# Altium footprint library COMM_SCHPCB.PcbLib: 136 footprints (part 8 of 9)
Each footprint in its own frame and in the unit in brackets; x right, y up, seen from the top. Pads: shape width x height; smd on the part's side, far side on the other; paste and mask are expansions set on the pad; w line width, h text height; cw(c..) or ccw(c..) is an arc to the next point about the centre after c.
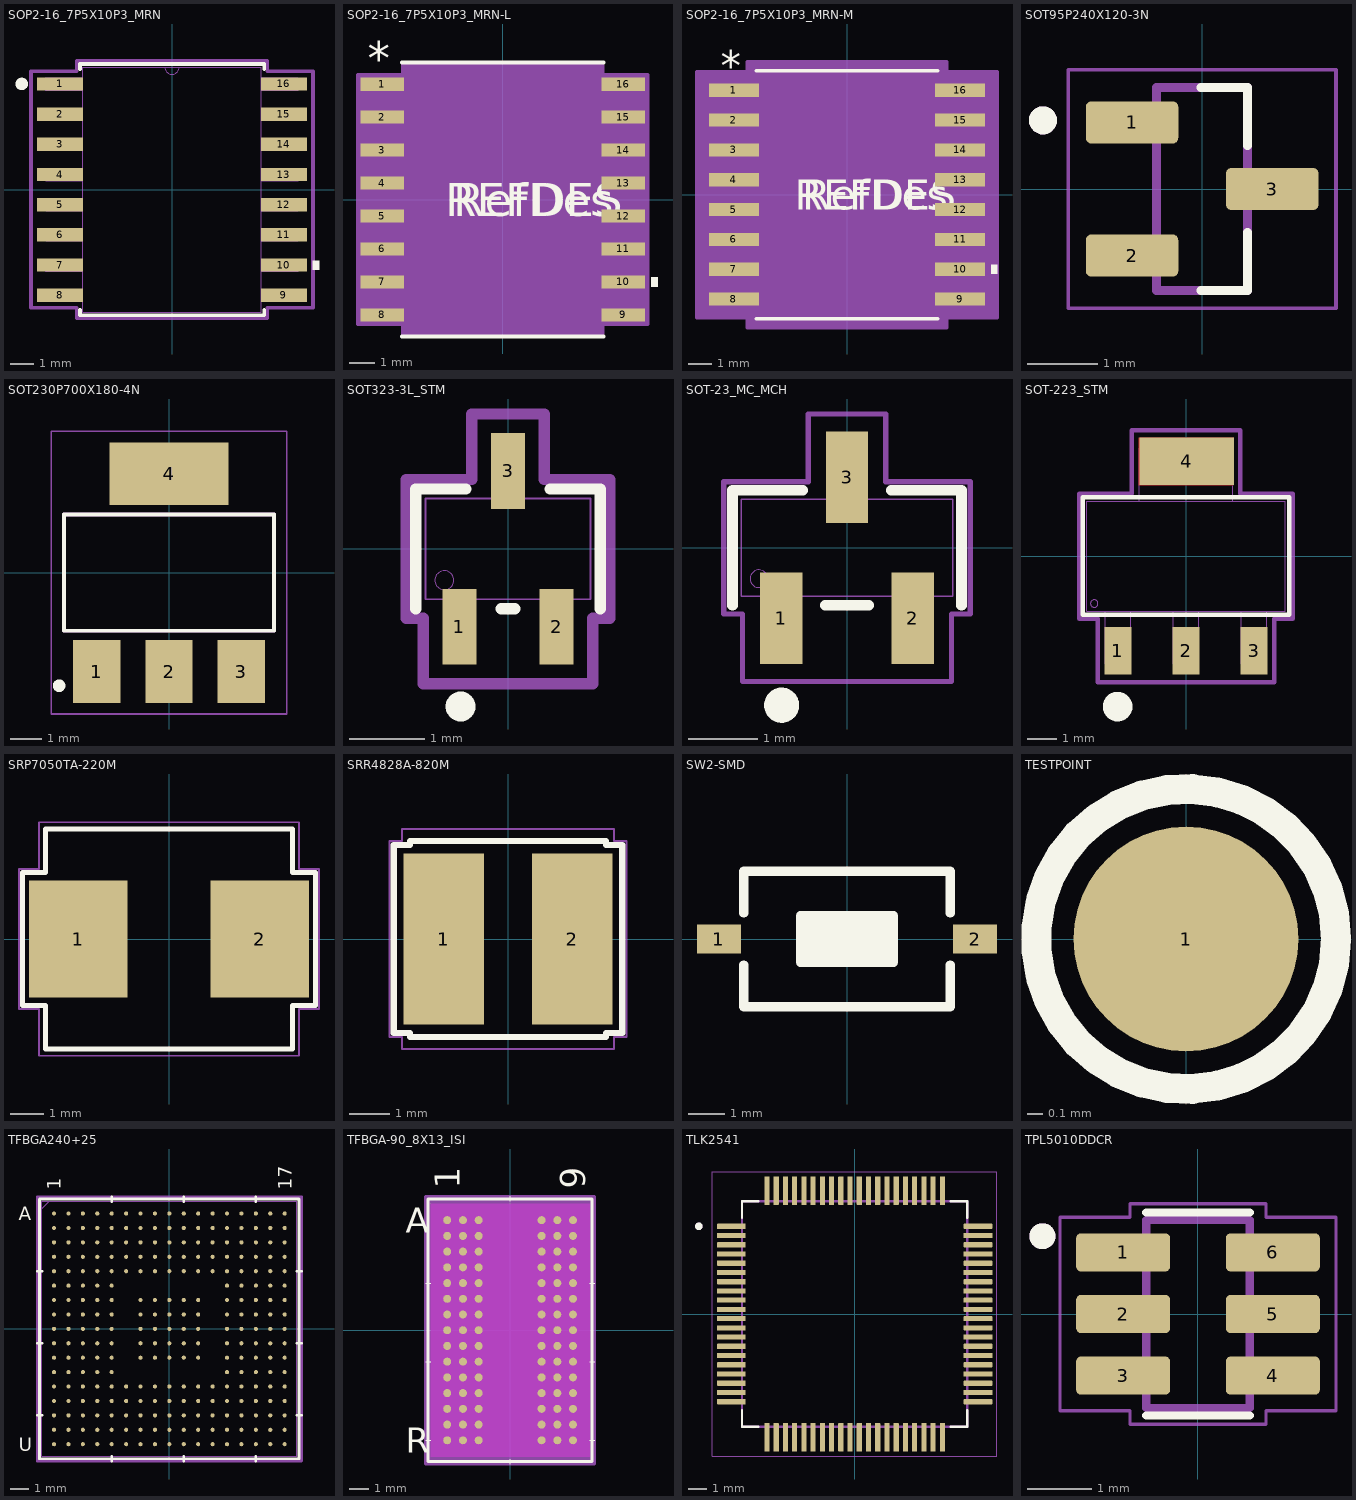
[diagram p7: the footprints below, top view; thin cyan lines are the x and y axes]

## SOP2-16_7P5X10P3_MRN [mil]
pads (16):
  rect 76x22 smd paste+0 mask+0: 1(-185.5,175) 2(-185.5,125) 3(-185.5,75) 4(-185.5,25) 5(-185.5,-25) 6(-185.5,-75) 7(-185.5,-125) 8(-185.5,-175) 9(185.5,-175) 10(185.5,-125) 11(185.5,-75) 12(185.5,-25) 13(185.5,25) 14(185.5,75) 15(185.5,125) 16(185.5,175)
Top Overlay:
  circle w11.81: c-249,175 r4.47
  region: 233.5,-117.5 243.5,-117.5 243.5,-132.5 233.5,-132.5
  lines w6: -152.5,-199.1 -152.5,-208 152.5,-208 152.5,-199.1 ; -152.5,199.1 -152.5,208 152.5,208 152.5,199.1
Mechanical 13:
  lines w0: -12,203 ccw(c0,203) 12,203
  lines w1: -209.5,-185 -147.5,-185 -147.5,-165 -209.5,-165 -209.5,-185 ; -209.5,-135 -147.5,-135 -147.5,-115 -209.5,-115 -209.5,-135 ; -209.5,-85 -147.5,-85 -147.5,-65 -209.5,-65 -209.5,-85 ; -209.5,-35 -147.5,-35 -147.5,-15 -209.5,-15 -209.5,-35 ; -209.5,15 -147.5,15 -147.5,35 -209.5,35 -209.5,15 ; -209.5,65 -147.5,65 -147.5,85 -209.5,85 -209.5,65 ; -209.5,115 -147.5,115 -147.5,135 -209.5,135 -209.5,115 ; -209.5,165 -147.5,165 -147.5,185 -209.5,185 -209.5,165 ; -147.5,-203 -147.5,203 147.5,203 147.5,-203 -147.5,-203 ; 147.5,-185 209.5,-185 209.5,-165 147.5,-165 147.5,-185 ; 147.5,-135 209.5,-135 209.5,-115 147.5,-115 147.5,-135 ; 147.5,-85 209.5,-85 209.5,-65 147.5,-65 147.5,-85 ; 147.5,-35 209.5,-35 209.5,-15 147.5,-15 147.5,-35 ; 147.5,15 209.5,15 209.5,35 147.5,35 147.5,15 ; 147.5,65 209.5,65 209.5,85 147.5,85 147.5,65 ; 147.5,115 209.5,115 209.5,135 147.5,135 147.5,115 ; 147.5,165 209.5,165 209.5,185 147.5,185 147.5,165
Mechanical 15:
  lines w6: -233.5,-196 -157.5,-196 -157.5,-213 157.5,-213 157.5,-196 233.5,-196 233.5,196 157.5,196 157.5,213 -157.5,213 -157.5,196 -233.5,196 -233.5,-196
3D body "SOP2-16_7P5X10P3_MRN.step": height 108.11, standoff 0, extent -209.49,-202.99 209.49,202.99

## SOP2-16_7P5X10P3_MRN-L [mil]
pads (16):
  rect 66x20 smd paste+0 mask+0: 1(-182.5,175) 2(-182.5,125) 3(-182.5,75) 4(-182.5,25) 5(-182.5,-25) 6(-182.5,-75) 7(-182.5,-125) 8(-182.5,-175) 9(182.5,-175) 10(182.5,-125) 11(182.5,-75) 12(182.5,-25) 13(182.5,25) 14(182.5,75) 15(182.5,125) 16(182.5,175)
Top Overlay:
  region: 225.5,-117.5 235.5,-117.5 235.5,-132.5 225.5,-132.5
  lines w6: -152.5,-208 152.5,-208 ; -152.5,208 152.5,208
  text "RefDes" at -75,-25 h50
  text "*" at -205,190 h50
  text "REFDES" at -87.5,-25 h50
Mechanical 13:
  lines w0: -12,203 ccw(c0,203) 12,203
  lines w1: -209.5,-185 -147.5,-185 -147.5,-165 -209.5,-165 -209.5,-185 ; -209.5,-135 -147.5,-135 -147.5,-115 -209.5,-115 -209.5,-135 ; -209.5,-85 -147.5,-85 -147.5,-65 -209.5,-65 -209.5,-85 ; -209.5,-35 -147.5,-35 -147.5,-15 -209.5,-15 -209.5,-35 ; -209.5,15 -147.5,15 -147.5,35 -209.5,35 -209.5,15 ; -209.5,65 -147.5,65 -147.5,85 -209.5,85 -209.5,65 ; -209.5,115 -147.5,115 -147.5,135 -209.5,135 -209.5,115 ; -209.5,165 -147.5,165 -147.5,185 -209.5,185 -209.5,165 ; -147.5,-203 -147.5,203 147.5,203 147.5,-203 -147.5,-203 ; 147.5,-185 209.5,-185 209.5,-165 147.5,-165 147.5,-185 ; 147.5,-135 209.5,-135 209.5,-115 147.5,-115 147.5,-135 ; 147.5,-85 209.5,-85 209.5,-65 147.5,-65 147.5,-85 ; 147.5,-35 209.5,-35 209.5,-15 147.5,-15 147.5,-35 ; 147.5,15 209.5,15 209.5,35 147.5,35 147.5,15 ; 147.5,65 209.5,65 209.5,85 147.5,85 147.5,65 ; 147.5,115 209.5,115 209.5,135 147.5,135 147.5,115 ; 147.5,165 209.5,165 209.5,185 147.5,185 147.5,165
  text "RefDes2" at -87.5,-25 h50
  text "*" at -145,150 h50
Mechanical 15:
  region: -151.5,-189 -219.5,-189 -219.5,189 -151.5,189 -151.5,207 151.5,207 151.5,189 219.5,189 219.5,-189 151.5,-189 151.5,-207 -151.5,-207
  lines w6: -219.5,-189 -151.5,-189 -151.5,-207 151.5,-207 151.5,-189 219.5,-189 219.5,189 151.5,189 151.5,207 -151.5,207 -151.5,189 -219.5,189 -219.5,-189
3D body "SOP2-16_7P5X10P3_MRN.step": height 108.11, standoff 0, extent -209.49,-202.99 209.49,202.99

## SOP2-16_7P5X10P3_MRN-M [mil]
pads (16):
  rect 84x22 smd paste+0 mask+0: 1(-189.5,175) 2(-189.5,125) 3(-189.5,75) 4(-189.5,25) 5(-189.5,-25) 6(-189.5,-75) 7(-189.5,-125) 8(-189.5,-175) 9(189.5,-175) 10(189.5,-125) 11(189.5,-75) 12(189.5,-25) 13(189.5,25) 14(189.5,75) 15(189.5,125) 16(189.5,175)
Top Overlay:
  region: 241.5,-117.5 251.5,-117.5 251.5,-132.5 241.5,-132.5
  lines w6: -152.5,-208 152.5,-208 ; -152.5,208 152.5,208
  text "REFDES" at -87.5,-25 h50
  text "*" at -212,192 h50
  text "RefDes" at -75,-25 h50
Mechanical 13:
  lines w0: -12,203 ccw(c0,203) 12,203
  lines w1: -209.5,-185 -209.5,-165 -147.5,-165 -147.5,-185 -209.5,-185 ; -209.5,-135 -209.5,-115 -147.5,-115 -147.5,-135 -209.5,-135 ; -209.5,-85 -209.5,-65 -147.5,-65 -147.5,-85 -209.5,-85 ; -209.5,-35 -209.5,-15 -147.5,-15 -147.5,-35 -209.5,-35 ; -209.5,15 -209.5,35 -147.5,35 -147.5,15 -209.5,15 ; -209.5,65 -209.5,85 -147.5,85 -147.5,65 -209.5,65 ; -209.5,115 -209.5,135 -147.5,135 -147.5,115 -209.5,115 ; -209.5,165 -209.5,185 -147.5,185 -147.5,165 -209.5,165 ; -147.5,-203 147.5,-203 147.5,203 -147.5,203 -147.5,-203 ; 147.5,-185 147.5,-165 209.5,-165 209.5,-185 147.5,-185 ; 147.5,-135 147.5,-115 209.5,-115 209.5,-135 147.5,-135 ; 147.5,-85 147.5,-65 209.5,-65 209.5,-85 147.5,-85 ; 147.5,-35 147.5,-15 209.5,-15 209.5,-35 147.5,-35 ; 147.5,15 147.5,35 209.5,35 209.5,15 147.5,15 ; 147.5,65 147.5,85 209.5,85 209.5,65 147.5,65 ; 147.5,115 147.5,135 209.5,135 209.5,115 147.5,115 ; 147.5,165 147.5,185 209.5,185 209.5,165 147.5,165
  text "*" at -145,150 h50
  text "RefDes2" at -87.5,-25 h50
Mechanical 15:
  region: -167.5,-206 -251.5,-206 -251.5,206 -167.5,206 -167.5,223 167.5,223 167.5,206 251.5,206 251.5,-206 167.5,-206 167.5,-223 -167.5,-223
  lines w6: -251.5,-206 -251.5,206 -167.5,206 -167.5,223 167.5,223 167.5,206 251.5,206 251.5,-206 167.5,-206 167.5,-223 -167.5,-223 -167.5,-206 -251.5,-206
3D body "SOP2-16_7P5X10P3_MRN.step": height 108.11, standoff 0, extent -209.49,-202.99 209.49,202.99

## SOT95P240X120-3N [mm]
height 1.2
pads (3):
  rrect25% 1.32x0.6 smd: 1(-1,0.95) 2(-1,-0.95) 3(1,0)
Top Overlay:
  circle w0.2: c-2.27,0.98 r0.1
  lines w0.127: -0.02,-1.45 0.65,-1.45 0.65,-0.62 ; -0.02,1.45 0.65,1.45 0.65,0.62
Mechanical 13:
  circle w0.2: c-2.27,0.98 r0.1
  lines w0.127: -0.65,-1.45 -0.65,1.45 0.65,1.45 0.65,-1.45 -0.65,-1.45
Mechanical 15:
  lines w0.05: -1.91,-1.7 1.91,-1.7 1.91,1.7 -1.91,1.7 -1.91,-1.7
3D body "step_temp.STEP": height 1.2, standoff 0, extent -1.2,-1.45 1.2,1.45

## SOT230P700X180-4N [mm]
pads (4):
  rect 1.5x2 smd: 1(-2.3,-3.15) 2(0,-3.15) 3(2.3,-3.15)
  rect 3.8x2 smd: 4(0,3.15)
Top Overlay:
  circle w0.2: c-3.5,-3.6 r0.1
  lines w0.127: -3.35,-1.85 3.35,-1.85 3.35,1.85 -3.35,1.85 -3.35,-1.85
Mechanical 13:
  lines w0.127: -3.35,-1.85 3.35,-1.85 3.35,1.85 -3.35,1.85 -3.35,-1.85
Mechanical 15:
  lines w0.05: -3.75,-4.5 -3.75,4.5 3.75,4.5 3.75,-4.5 -3.75,-4.5
3D body "step_temp.STEP": height 1.8, standoff 0, extent -3.25,-3.499 3.25,3.499

## SOT323-3L_STM [mil]
pads (3):
  rect 18x40 smd paste+0 mask+0: 1(-25.59,-41) 2(25.59,-41) 3(0,41)
Top Overlay:
  circle w7.87: c-25,-83 r3.94
  lines w6: -48.5,-31.5 -48.5,31.5 -22.1,31.5 ; -3.49,-31.5 3.49,-31.5 ; 22.1,31.5 48.5,31.5 48.5,-31.5
Mechanical 13:
  circle w0: c-33.5,-16.5 r5
  lines w1: -43.5,-26.5 43.5,-26.5 43.5,26.5 -43.5,26.5 -43.5,-26.5 ; -33.59,-47 -33.59,-26.5 -17.59,-26.5 -17.59,-47 -33.59,-47 ; -8,26.5 8,26.5 8,47 -8,47 -8,26.5 ; 17.59,-47 17.59,-26.5 33.59,-26.5 33.59,-47 17.59,-47
Mechanical 15:
  lines w6: -53.5,-36.5 -53.5,36.5 -19,36.5 -19,71 19,71 19,36.5 53.5,36.5 53.5,-36.5 44.59,-36.5 44.59,-71 -44.59,-71 -44.59,-36.5 -53.5,-36.5
3D body "SOT323-3L_STM.step": height 43.11, standoff 0, extent -43.5,-47.01 43.5,47.01

## SOT-23_MC_MCH [mil]
pads (3):
  rect 24x52 smd paste+0 mask+0: 1(-37.4,-39.97) 2(37.4,-39.97) 3(0,39.97)
Top Overlay:
  circle w10: c-37.13,-89.41 r5
  lines w6: -65.04,-32.56 -65.04,32.56 -25.1,32.56 ; -12.3,-32.56 12.3,-32.56 ; 25.1,32.56 65.04,32.56 65.04,-32.56
Mechanical 13:
  circle w0: c-50.04,-17.56 r5
  lines w1: -60.04,-27.56 60.04,-27.56 60.04,27.56 -60.04,27.56 -60.04,-27.56 ; -48.4,-51.97 -48.4,-27.56 -26.4,-27.56 -26.4,-51.97 -48.4,-51.97 ; -11,27.56 11,27.56 11,51.97 -11,51.97 -11,27.56 ; 26.4,-51.97 26.4,-27.56 48.4,-27.56 48.4,-51.97 26.4,-51.97
Mechanical 15:
  lines w3: -70.04,-37.56 -70.04,37.56 -22,37.56 -22,75.97 22,75.97 22,37.56 70.04,37.56 70.04,-37.56 59.4,-37.56 59.4,-75.97 -59.4,-75.97 -59.4,-37.56 -70.04,-37.56
3D body "SOT-23_MC_MCH.step": height 44.17, standoff 0, extent -60.04,-51.97 60.04,51.97

## SOT-223_STM [mil]
pads (4):
  rect 36x63 smd paste+0: 1(-90.55,-126) 2(0,-126) 3(90.55,-126)
  rect 125.98x62.99 smd paste+0: 4(1,126)
Top Layer:
  region: 63,94.5 63,157.5 -63,157.5 -63,94.5
Top Overlay:
  circle w19.68: c-91,-200 r9.84
  lines w6: -137,-78 137,-78 137,78 -137,78 -137,-78
Mechanical 13:
  circle w0: c-122,-63 r5
  lines w1: -132,-73 132,-73 132,73 -132,73 -132,-73 ; -107.55,-143.5 -107.55,-73 -73.55,-73 -73.55,-143.5 -107.55,-143.5 ; -62,73 62,73 62,143.5 -62,143.5 -62,73 ; -17,-143.5 -17,-73 17,-73 17,-143.5 -17,-143.5 ; 73.55,-143.5 73.55,-73 107.55,-73 107.55,-143.5 73.55,-143.5
Mechanical 15:
  lines w6: -142,-83 -142,83 -72,83 -72,167.5 72,167.5 72,83 142,83 142,-83 117.55,-83 117.55,-167.5 -117.55,-167.5 -117.55,-83 -142,-83
3D body "SOT-223_STM.step": height 71.1, standoff 0, extent -132.01,-143.5 132.01,143.5

## SRP7050TA-220M [mm]
pads (2):
  rect 2.95x3.5 smd: 1(-2.725,0) 2(2.725,0)
Top Overlay:
  lines w0.15: -4.4,-2 -4.4,2 -3.7,2 -3.7,3.3 3.7,3.3 3.7,2 4.4,2 4.4,-2 3.7,-2 3.7,-3.3 -3.7,-3.3 -3.7,-2 -4.4,-2
Top Courtyard:
  lines w0.05: -4.5,-2.1 -3.9,-2.1 -3.9,-3.5 3.9,-3.5 3.9,-2.1 4.5,-2.1 4.5,2.1 3.9,2.1 3.9,3.5 -3.9,3.5 -3.9,2.1 -4.5,2.1 -4.5,1.8 -4.5,-2.1
3D body "SRP7050TA.stp": height 4.6, standoff -0.35, extent -3.65,-3.3 3.65,3.3

## SRR4828A-820M [mm] "L-SMD-M-4.8x4.8x2.8mm"
pads (2):
  rect 1.98x4.2 smd: 1(-1.575,0) 2(1.575,0)
Top Overlay:
  lines w0.15: -2.8,-2.3 -2.8,2.3 -2.4,2.3 -2.4,2.4 -2.3,2.4 2.4,2.4 2.4,2.3 2.6,2.3 2.7,2.3 2.8,2.3 2.8,-2.3 2.5,-2.3 2.4,-2.3 2.4,-2.4 -2.4,-2.4 -2.4,-2.3 -2.8,-2.3
Top Courtyard:
  lines w0.05: -2.9,2.1 -2.9,2.4 -2.6,2.4 -2.6,2.7 2.6,2.7 2.6,2.4 2.9,2.4 2.9,-2.4 2.6,-2.4 2.6,-2.7 -2.6,-2.7 -2.6,-2.6 -2.6,-2.4 -2.9,-2.4 -2.9,2.2
3D body "SRR4828A (1).stp": height 2.8, standoff 0.04, extent -2.4,-2.41 2.4,2.41

## SW2-SMD [mm]
pads (2):
  rect 1.2x0.8 smd: 1(-3.5,0) 2(3.5,0)
Top Overlay:
  rectangle: -1.27,-0.635 1.27,0.635
  lines w0.254: -2.819,-0.711 -2.819,-1.854 2.819,-1.854 2.819,-0.711 ; -2.819,0.711 -2.819,1.854 2.819,1.854 2.819,0.711 ; -1.27,-0.635 1.27,-0.635 1.27,0.635 -1.27,0.635 -1.27,-0.635
3D body "User Library-Button-SMD.step": height 2.5, standoff 0, extent -3.05,-1.85 3.05,1.85

## TESTPOINT [mm]
pads (1):
  round 1.5 smd: 1(0,0)
Top Overlay:
  circle w0.2: c0,0 r1

## TFBGA240+25 [mil]
pads (265):
  round 9 smd paste+0 mask+3: A1(-251.97,251.97) A2(-220.47,251.97) A3(-188.98,251.97) A4(-157.48,251.97) A5(-125.98,251.97) A6(-94.49,251.97) A7(-62.99,251.97) A8(-31.5,251.97) A9(0,251.97) A10(31.5,251.97) A11(62.99,251.97) A12(94.49,251.97) A13(125.98,251.97) A14(157.48,251.97) A15(188.98,251.97) A16(220.47,251.97) A17(251.97,251.97) B1(-251.97,220.47) B2(-220.47,220.47) B3(-188.98,220.47) B4(-157.48,220.47) B5(-125.98,220.47) B6(-94.49,220.47) B7(-62.99,220.47) B8(-31.5,220.47) B9(0,220.47) B10(31.5,220.47) B11(62.99,220.47) B12(94.49,220.47) B13(125.98,220.47) B14(157.48,220.47) B15(188.98,220.47) B16(220.47,220.47) B17(251.97,220.47) C1(-251.97,188.98) C2(-220.47,188.98) C3(-188.98,188.98) C4(-157.48,188.98) C5(-125.98,188.98) C6(-94.49,188.98) C7(-62.99,188.98) C8(-31.5,188.98) C9(0,188.98) C10(31.5,188.98) C11(62.99,188.98) C12(94.49,188.98) C13(125.98,188.98) C14(157.48,188.98) C15(188.98,188.98) C16(220.47,188.98) C17(251.97,188.98) D1(-251.97,157.48) D2(-220.47,157.48) D3(-188.98,157.48) D4(-157.48,157.48) D5(-125.98,157.48) D6(-94.49,157.48) D7(-62.99,157.48) D8(-31.5,157.48) D9(0,157.48) D10(31.5,157.48) D11(62.99,157.48) D12(94.49,157.48) D13(125.98,157.48) D14(157.48,157.48) D15(188.98,157.48) D16(220.47,157.48) D17(251.97,157.48) E1(-251.97,125.98) E2(-220.47,125.98) E3(-188.98,125.98) E4(-157.48,125.98) E5(-125.98,125.98) E6(-94.49,125.98) E7(-62.99,125.98) E8(-31.5,125.98) E9(0,125.98) E10(31.5,125.98) E11(62.99,125.98) E12(94.49,125.98) E13(125.98,125.98) E14(157.48,125.98) E15(188.98,125.98) E16(220.47,125.98) E17(251.97,125.98) F1(-251.97,94.49) F2(-220.47,94.49) F3(-188.98,94.49) F4(-157.48,94.49) F5(-125.98,94.49) F13(125.98,94.49) F14(157.48,94.49) F15(188.98,94.49) F16(220.47,94.49) F17(251.97,94.49) G1(-251.97,62.99) G2(-220.47,62.99) G3(-188.98,62.99) G4(-157.48,62.99) G5(-125.98,62.99) G7(-62.99,62.99) G8(-31.5,62.99) G9(0,62.99) G10(31.5,62.99) G11(62.99,62.99) G13(125.98,62.99) G14(157.48,62.99) G15(188.98,62.99) G16(220.47,62.99) G17(251.97,62.99) H1(-251.97,31.5) H2(-220.47,31.5) H3(-188.98,31.5) H4(-157.48,31.5) H5(-125.98,31.5) H7(-62.99,31.5) H8(-31.5,31.5) H9(0,31.5) H10(31.5,31.5) H11(62.99,31.5) H13(125.98,31.5) H14(157.48,31.5) H15(188.98,31.5) H16(220.47,31.5) H17(251.97,31.5) J1(-251.97,0) J2(-220.47,0) J3(-188.98,0) J4(-157.48,0) J5(-125.98,0) J7(-62.99,0) J8(-31.5,0) J9(0,0) J10(31.5,0) J11(62.99,0) J13(125.98,0) J14(157.48,0) J15(188.98,0) J16(220.47,0) J17(251.97,0) K1(-251.97,-31.5) K2(-220.47,-31.5) K3(-188.98,-31.5) K4(-157.48,-31.5) K5(-125.98,-31.5) K7(-62.99,-31.5) K8(-31.5,-31.5) K9(0,-31.5) K10(31.5,-31.5) K11(62.99,-31.5) K13(125.98,-31.5) K14(157.48,-31.5) K15(188.98,-31.5) K16(220.47,-31.5) K17(251.97,-31.5) L1(-251.97,-62.99) L2(-220.47,-62.99) L3(-188.98,-62.99) L4(-157.48,-62.99) L5(-125.98,-62.99) L7(-62.99,-62.99) L8(-31.5,-62.99) L9(0,-62.99) L10(31.5,-62.99) L11(62.99,-62.99) L13(125.98,-62.99) L14(157.48,-62.99) L15(188.98,-62.99) L16(220.47,-62.99) L17(251.97,-62.99) M1(-251.97,-94.49) M2(-220.47,-94.49) M3(-188.98,-94.49) M4(-157.48,-94.49) M5(-125.98,-94.49) M13(125.98,-94.49) M14(157.48,-94.49) M15(188.98,-94.49) M16(220.47,-94.49) M17(251.97,-94.49) N1(-251.97,-125.98) N2(-220.47,-125.98) N3(-188.98,-125.98) N4(-157.48,-125.98) N5(-125.98,-125.98) N6(-94.49,-125.98) N7(-62.99,-125.98) N8(-31.5,-125.98) N9(0,-125.98) N10(31.5,-125.98) N11(62.99,-125.98) N12(94.49,-125.98) N13(125.98,-125.98) N14(157.48,-125.98) N15(188.98,-125.98) N16(220.47,-125.98) N17(251.97,-125.98) P1(-251.97,-157.48) P2(-220.47,-157.48) P3(-188.98,-157.48) P4(-157.48,-157.48) P5(-125.98,-157.48) P6(-94.49,-157.48) P7(-62.99,-157.48) P8(-31.5,-157.48) P9(0,-157.48) P10(31.5,-157.48) P11(62.99,-157.48) P12(94.49,-157.48) P13(125.98,-157.48) P14(157.48,-157.48) P15(188.98,-157.48) P16(220.47,-157.48) P17(251.97,-157.48) R1(-251.97,-188.98) R2(-220.47,-188.98) R3(-188.98,-188.98) R4(-157.48,-188.98) R5(-125.98,-188.98) R6(-94.49,-188.98) R7(-62.99,-188.98) R8(-31.5,-188.98) R9(0,-188.98) R10(31.5,-188.98) R11(62.99,-188.98) R12(94.49,-188.98) R13(125.98,-188.98) R14(157.48,-188.98) R15(188.98,-188.98) R16(220.47,-188.98) R17(251.97,-188.98) T1(-251.97,-220.47) T2(-220.47,-220.47) T3(-188.98,-220.47) T4(-157.48,-220.47) T5(-125.98,-220.47) T6(-94.49,-220.47) T7(-62.99,-220.47) T8(-31.5,-220.47) T9(0,-220.47) T10(31.5,-220.47) T11(62.99,-220.47) T12(94.49,-220.47) T13(125.98,-220.47) T14(157.48,-220.47) T15(188.98,-220.47) T16(220.47,-220.47) T17(251.97,-220.47) U1(-251.97,-251.97) U2(-220.47,-251.97) U3(-188.98,-251.97) U4(-157.48,-251.97) U5(-125.98,-251.97) U6(-94.49,-251.97) U7(-62.99,-251.97) U8(-31.5,-251.97) U9(0,-251.97) U10(31.5,-251.97) U11(62.99,-251.97) U12(94.49,-251.97) U13(125.98,-251.97) U14(157.48,-251.97) U15(188.98,-251.97) U16(220.47,-251.97) U17(251.97,-251.97)
Top Overlay:
  lines w6: -288.5,-188.98 -278.5,-188.98 ; -288.5,-31.5 -278.5,-31.5 ; -288.5,125.98 -278.5,125.98 ; -125.98,-288.5 -125.98,-278.5 ; -125.98,278.5 -125.98,288.5 ; 31.5,-288.5 31.5,-278.5 ; 31.5,278.5 31.5,288.5 ; 188.98,-288.5 188.98,-278.5 ; 188.98,278.5 188.98,288.5 ; 278.5,-188.98 288.5,-188.98 ; 278.5,-31.5 288.5,-31.5 ; 278.5,125.98 288.5,125.98 ; -283.5,-283.5 283.5,-283.5 283.5,283.5 -283.5,283.5 -283.5,-283.5
  text "U" at -328.5,-276.97 h50
  text "A" at -328.5,226.97 h50
  text "1" at -226.97,303.5 h50
  text "17" at 276.97,303.5 h50
Mechanical 13:
  lines w1: -278.5,262.75 -262.75,278.5 ; -278.5,-278.5 278.5,-278.5 278.5,278.5 -278.5,278.5 -278.5,-278.5
  text "A" at -328.5,226.97 h50
  text "U" at -328.5,-276.97 h50
  text "1" at -226.97,303.5 h50
  text "17" at 276.97,303.5 h50
  text "RefDes2" at -87.5,-25 h50
Mechanical 15:
  lines w6: -288.5,-288.5 -288.5,288.5 288.5,288.5 288.5,-288.5 -288.5,-288.5
3D body "TFBGA240+25.step": height 43.43, standoff -0.01, extent -278.5,-278.5 278.5,278.5

## TFBGA-90_8X13_ISI [mil]
pads (90):
  round 16 smd paste+0 mask+0: A1(-125.98,220.47) A2(-94.49,220.47) A3(-62.99,220.47) A7(62.99,220.47) A8(94.49,220.47) A9(125.98,220.47) B1(-125.98,188.98) B2(-94.49,188.98) B3(-62.99,188.98) B7(62.99,188.98) B8(94.49,188.98) B9(125.98,188.98) C1(-125.98,157.48) C2(-94.49,157.48) C3(-62.99,157.48) C7(62.99,157.48) C8(94.49,157.48) C9(125.98,157.48) D1(-125.98,125.98) D2(-94.49,125.98) D3(-62.99,125.98) D7(62.99,125.98) D8(94.49,125.98) D9(125.98,125.98) E1(-125.98,94.49) E2(-94.49,94.49) E3(-62.99,94.49) E7(62.99,94.49) E8(94.49,94.49) E9(125.98,94.49) F1(-125.98,62.99) F2(-94.49,62.99) F3(-62.99,62.99) F7(62.99,62.99) F8(94.49,62.99) F9(125.98,62.99) G1(-125.98,31.5) G2(-94.49,31.5) G3(-62.99,31.5) G7(62.99,31.5) G8(94.49,31.5) G9(125.98,31.5) H1(-125.98,0) H2(-94.49,0) H3(-62.99,0) H7(62.99,0) H8(94.49,0) H9(125.98,0) J1(-125.98,-31.5) J2(-94.49,-31.5) J3(-62.99,-31.5) J7(62.99,-31.5) J8(94.49,-31.5) J9(125.98,-31.5) K1(-125.98,-62.99) K2(-94.49,-62.99) K3(-62.99,-62.99) K7(62.99,-62.99) K8(94.49,-62.99) K9(125.98,-62.99) L1(-125.98,-94.49) L2(-94.49,-94.49) L3(-62.99,-94.49) L7(62.99,-94.49) L8(94.49,-94.49) L9(125.98,-94.49) M1(-125.98,-125.98) M2(-94.49,-125.98) M3(-62.99,-125.98) M7(62.99,-125.98) M8(94.49,-125.98) M9(125.98,-125.98) N1(-125.98,-157.48) N2(-94.49,-157.48) N3(-62.99,-157.48) N7(62.99,-157.48) N8(94.49,-157.48) N9(125.98,-157.48) P1(-125.98,-188.98) P2(-94.49,-188.98) P3(-62.99,-188.98) P7(62.99,-188.98) P8(94.49,-188.98) P9(125.98,-188.98) R1(-125.98,-220.47) R2(-94.49,-220.47) R3(-62.99,-220.47) R7(62.99,-220.47) R8(94.49,-220.47) R9(125.98,-220.47)
Top Overlay:
  lines w1: -169.5,-220.47 -159.5,-220.47 ; -169.5,-62.99 -159.5,-62.99 ; -169.5,94.49 -159.5,94.49 ; 0,-268 0,-258 ; 0,258 0,268 ; 159.5,-220.47 169.5,-220.47 ; 159.5,-62.99 169.5,-62.99 ; 159.5,94.49 169.5,94.49
  lines w6: -164.5,-263 -164.5,263 164.5,263 164.5,-263 -164.5,-263
  text "9" at 150.98,283 h50
  text "1" at -100.98,283 h50
  text "R" at -209.5,-245.47 h50
  text "A" at -209.5,195.47 h50
Bottom Overlay:
  text "9" at 100.98,283 h50
  text "1" at -150.98,283 h50
  text "R" at -184.5,-245.47 h50
  text "A" at -184.5,195.47 h50
Keep-Out Layer:
  region: -159.23,-253.72 -159.23,253.72 159.23,253.72 159.23,-253.72
Mechanical 13:
  lines w1: -159.5,242.25 -143.75,258 ; -159.5,-258 -159.5,258 159.5,258 159.5,-258 -159.5,-258
  text "9" at 150.98,283 h50
  text "1" at -100.98,283 h50
  text "R" at -209.5,-245.47 h50
  text "A" at -209.5,195.47 h50
Mechanical 15:
  region: 169.5,-268 -169.5,-268 -169.5,268 169.5,268
  lines w6: -169.5,-268 169.5,-268 169.5,268 -169.5,268 -169.5,-268
3D body "TFBGA-90_8X13_ISI.step": height 47.09, standoff -0.01, extent -159.49,-257.99 159.49,257.99

## TLK2541 [mm]
pads (80):
  rrect25% 1.56x0.28 smd: 1(-6.68,4.75) 2(-6.68,4.25) 3(-6.68,3.75) 4(-6.68,3.25) 5(-6.68,2.75) 6(-6.68,2.25) 7(-6.68,1.75) 8(-6.68,1.25) 9(-6.68,0.75) 10(-6.68,0.25) 11(-6.68,-0.25) 12(-6.68,-0.75) 13(-6.68,-1.25) 14(-6.68,-1.75) 15(-6.68,-2.25) 16(-6.68,-2.75) 17(-6.68,-3.25) 18(-6.68,-3.75) 19(-6.68,-4.25) 20(-6.68,-4.75) 41(6.68,-4.75) 42(6.68,-4.25) 43(6.68,-3.75) 44(6.68,-3.25) 45(6.68,-2.75) 46(6.68,-2.25) 47(6.68,-1.75) 48(6.68,-1.25) 49(6.68,-0.75) 50(6.68,-0.25) 51(6.68,0.25) 52(6.68,0.75) 53(6.68,1.25) 54(6.68,1.75) 55(6.68,2.25) 56(6.68,2.75) 57(6.68,3.25) 58(6.68,3.75) 59(6.68,4.25) 60(6.68,4.75)
  rrect25% 0.28x1.56 smd: 21(-4.75,-6.68) 22(-4.25,-6.68) 23(-3.75,-6.68) 24(-3.25,-6.68) 25(-2.75,-6.68) 26(-2.25,-6.68) 27(-1.75,-6.68) 28(-1.25,-6.68) 29(-0.75,-6.68) 30(-0.25,-6.68) 31(0.25,-6.68) 32(0.75,-6.68) 33(1.25,-6.68) 34(1.75,-6.68) 35(2.25,-6.68) 36(2.75,-6.68) 37(3.25,-6.68) 38(3.75,-6.68) 39(4.25,-6.68) 40(4.75,-6.68) 61(4.75,6.68) 62(4.25,6.68) 63(3.75,6.68) 64(3.25,6.68) 65(2.75,6.68) 66(2.25,6.68) 67(1.75,6.68) 68(1.25,6.68) 69(0.75,6.68) 70(0.25,6.68) 71(-0.25,6.68) 72(-0.75,6.68) 73(-1.25,6.68) 74(-1.75,6.68) 75(-2.25,6.68) 76(-2.75,6.68) 77(-3.25,6.68) 78(-3.75,6.68) 79(-4.25,6.68) 80(-4.75,6.68)
Top Overlay:
  circle w0.2: c-8.44,4.75 r0.1
  lines w0.127: -6.1,-5.21 -6.1,-6.1 -5.21,-6.1 ; -6.1,5.21 -6.1,6.1 -5.21,6.1 ; 5.21,-6.1 6.1,-6.1 6.1,-5.21 ; 5.21,6.1 6.1,6.1 6.1,5.21
Mechanical 13:
  circle w0.2: c-8.44,4.75 r0.1
  lines w0.127: -6.1,-6.1 6.1,-6.1 6.1,6.1 -6.1,6.1 -6.1,-6.1
Mechanical 15:
  lines w0.05: -7.71,-7.71 7.71,-7.71 7.71,7.71 -7.71,7.71 -7.71,-7.71
3D body "PIC18F8410-I_PT.STEP": height 1.19, standoff -0.01, extent -7,-7 7,7

## TPL5010DDCR [mm]
pads (6):
  rrect25% 1.45x0.59 smd: 1(-1.155,0.95) 2(-1.155,0) 3(-1.155,-0.95) 4(1.155,-0.95) 5(1.155,0) 6(1.155,0.95)
Top Overlay:
  circle w0.2: c-2.4,1.2 r0.1
  lines w0.127: -0.8,-1.565 0.8,-1.565 ; -0.8,1.565 0.8,1.565
Mechanical 13:
  circle w0.2: c-2.4,1.2 r0.1
  lines w0.127: -0.8,-1.45 -0.8,1.45 0.8,1.45 0.8,-1.45 -0.8,-1.45
Mechanical 15:
  lines w0.05: -2.13,-1.495 -2.13,1.495 -1.05,1.495 -1.05,1.7 1.05,1.7 1.05,1.495 2.13,1.495 2.13,-1.495 1.05,-1.495 1.05,-1.7 -1.05,-1.7 -1.05,-1.495 -2.13,-1.495
3D body "step_temp.STEP": height 1.1, standoff 0, extent -1.4,-1.45 1.4,1.45